# EAGLE library part 776280-1 (library IFE_AMPSEAL_Conn)
AMPSEAL 8pin Connector Ampseal 8-pin connector Model: 776280-1
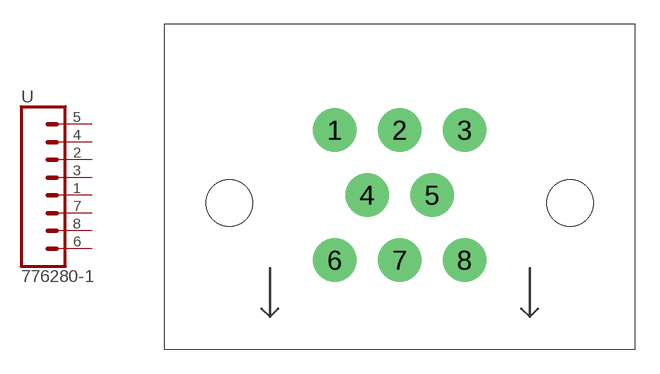
[diagram p0: symbol with the pads of 776280-1; footprint 776280-1]

Designator prefix -

## 776280-1  [776280-1]
1  4  pas
2  6  pas
3  5  pas
4  7  pas
5  8  pas
6  1  pas
7  3  pas
8  2  pas

## Footprint 776280-1 (pad centres in mm)
drill 1.8: 1 10.5,13.5; 2 14.5,13.5; 3 18.5,13.5; 4 12.5,9.5; 5 16.5,9.5; 6 10.5,5.5; 7 14.5,5.5; 8 18.5,5.5
hole 2.85 at 4,9
hole 2.85 at 25,9